# Altium footprint library NANO_STM32F103.PcbLib: 35 footprints (part 1 of 3)
Each footprint in its own frame and in the unit in brackets; x right, y up, seen from the top. Pads: shape width x height; smd on the part's side, far side on the other; paste and mask are expansions set on the pad; w line width, h text height; cw(c..) or ccw(c..) is an arc to the next point about the centre after c.
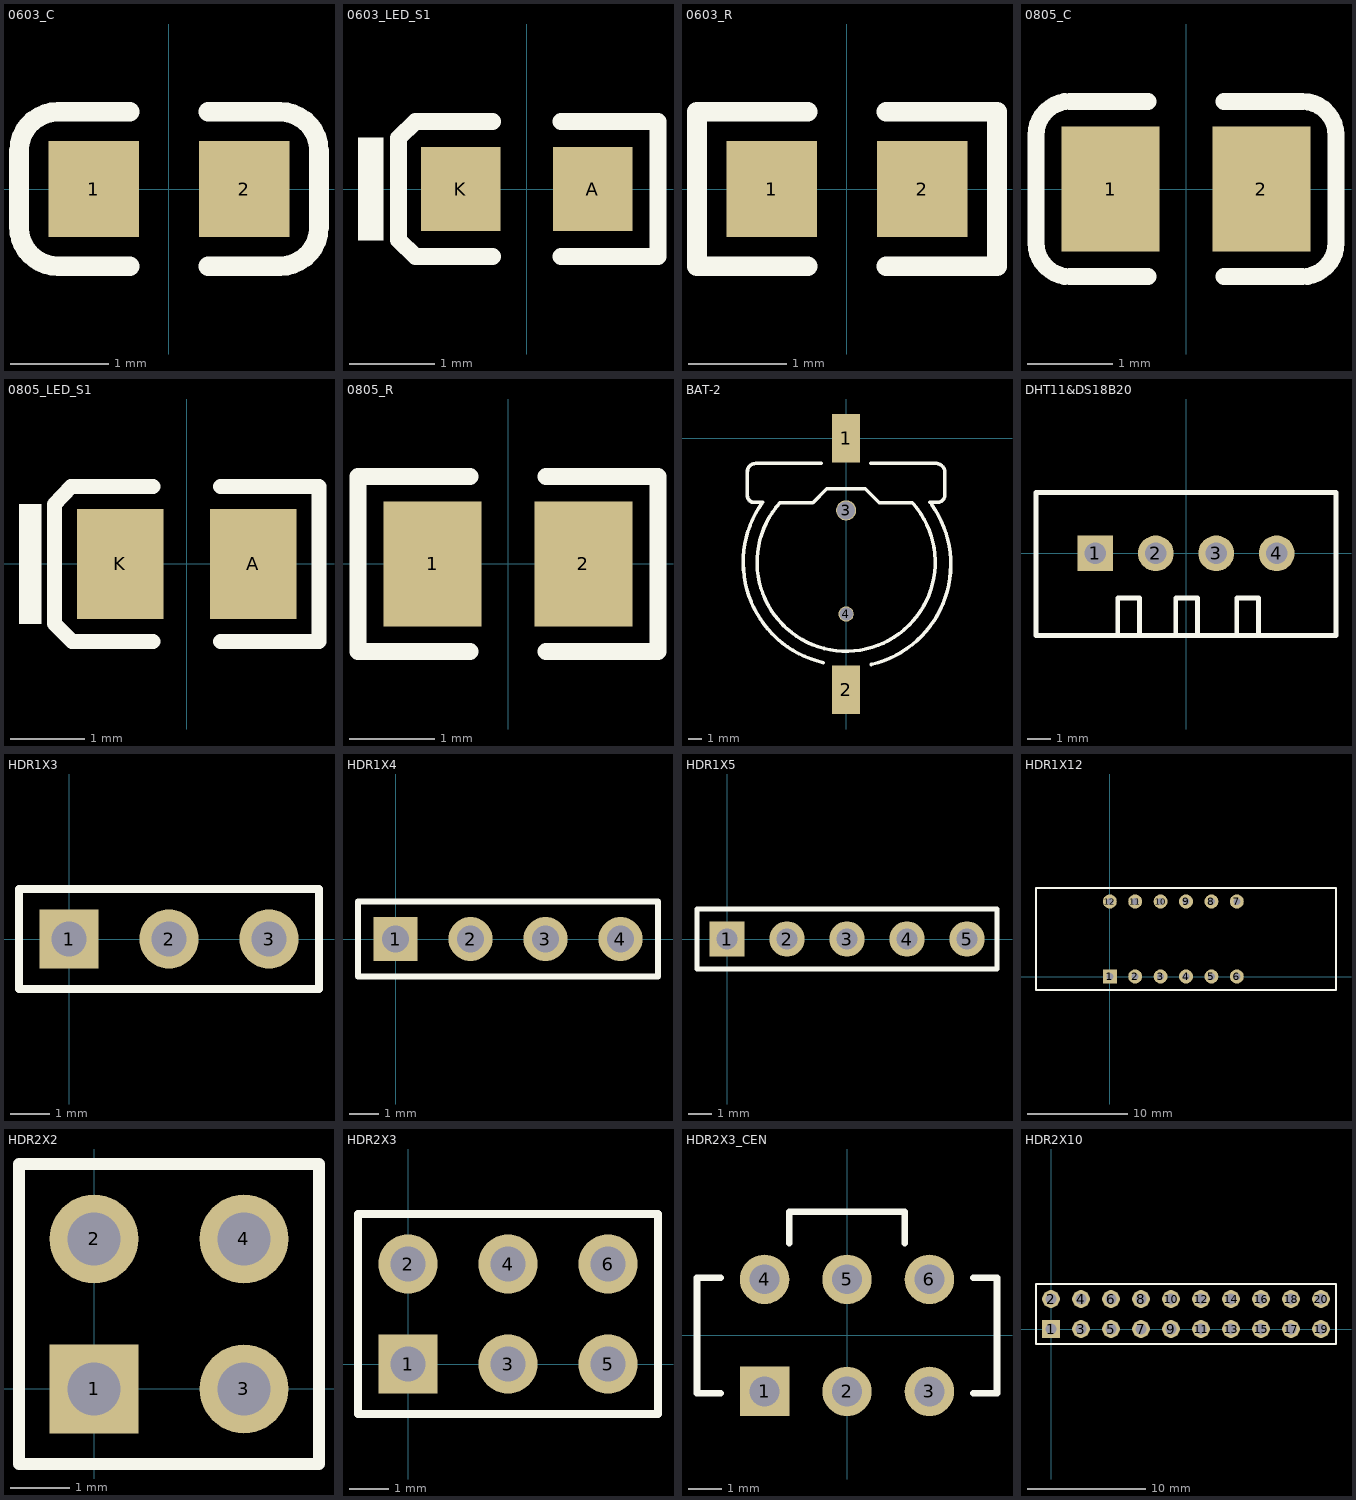
[diagram p0: the footprints below, top view; thin cyan lines are the x and y axes]

## 0603_C [mm]
pads (2):
  rect 0.93x0.98 smd: 1(-0.77,0) 2(0.77,0)
Top Overlay:
  lines w0.2: -0.4,-0.79 -1.135,-0.79 cw(c-1.135,-0.39) -1.535,-0.39 -1.535,0.39 cw(c-1.135,0.39) -1.135,0.79 -0.4,0.79 ; 0.4,-0.79 1.135,-0.79 ccw(c1.135,-0.39) 1.535,-0.39 1.535,0.39 ccw(c1.135,0.39) 1.135,0.79 0.4,0.79
3D body "User Library-0603 SMD Capacitor.STEP": height 0.3, standoff 0, extent -0.8,-0.4 0.8,0.4

## 0603_LED_S1 [mm]
pads (2):
  rect 0.93x0.98 smd: A(0.77,0) K(-0.77,0)
Top Overlay:
  rectangle: -1.975,-0.6 -1.675,0.6
  lines w0.2: -0.4,-0.79 -1.3,-0.79 -1.5,-0.597 -1.5,0.597 -1.3,0.79 -0.4,0.79 ; 0.4,-0.79 1.535,-0.79 1.535,0.79 0.4,0.79
3D body "User Library-LED_0603_R.STEP": height 0.6, standoff 0, extent -0.8,-0.4 0.8,0.4

## 0603_R [mm]
pads (2):
  rect 0.93x0.98 smd: 1(-0.77,0) 2(0.77,0)
Top Overlay:
  lines w0.2: -0.4,-0.79 -1.535,-0.79 -1.535,0.79 -0.4,0.79 ; 0.4,-0.79 1.535,-0.79 1.535,0.79 0.4,0.79
3D body "User Library-RES_1609-0603.STEP": height 0.56, standoff 0, extent -0.85,-0.4 0.85,0.4

## 0805_C [mm]
pads (2):
  rect 1.16x1.47 smd: 1(-0.89,0) 2(0.89,0)
Top Overlay:
  lines w0.2: -0.45,-1.035 -1.37,-1.035 cw(c-1.37,-0.635) -1.77,-0.635 -1.77,0.635 cw(c-1.37,0.635) -1.37,1.035 -0.45,1.035 ; 0.45,-1.035 1.37,-1.035 ccw(c1.37,-0.635) 1.77,-0.635 1.77,0.635 ccw(c1.37,0.635) 1.37,1.035 0.45,1.035
3D body "User Library-0805 SMD Capacitor.STEP": height 0.77, standoff -0.01, extent -0.999,-0.625 1.001,0.625

## 0805_LED_S1 [mm]
pads (2):
  rect 1.16x1.47 smd: A(0.89,0) K(-0.89,0)
Top Overlay:
  rectangle: -2.245,-0.8 -1.945,0.8
  lines w0.2: -0.45,-1.035 -1.535,-1.035 -1.77,-0.8 -1.77,0.8 -1.55,1.035 -0.45,1.035 ; 0.45,-1.035 1.77,-1.035 1.77,1.035 0.45,1.035
3D body "User Library-led_0805.step": height 1.1, standoff 0, extent -1.01,-0.625 1.01,0.625

## 0805_R [mm]
pads (2):
  rect 1.16x1.47 smd: 1(-0.89,0) 2(0.89,0)
Top Overlay:
  lines w0.2: -0.45,-1.035 -1.77,-1.035 -1.77,1.035 -0.45,1.035 ; 0.45,-1.035 1.77,-1.035 1.77,1.035 0.45,1.035
3D body "User Library-R_0805.STEP": height 0.49, standoff -0.01, extent -0.997,-0.625 1.003,0.625

## BAT-2 [mm] "Battery; 2 Leads"
pads (4):
  rect 2x3.5 smd: 1(0,0) 2(0,-18.067)
  round 1.45 hole 1.3: 3(0,-5.181)
  round 1.1 hole 0.95: 4(0,-12.631)
Top Overlay:
  lines w0.254: -6.016,-4.597 ccw(c0,-8.906) -1.649,-16.12 ; -6,-4.606 -6.6,-4.606 cw(c-6.6,-4.106) -7.1,-4.106 -7.1,-2.406 cw(c-6.5,-2.406) -6.5,-1.806 -1.778,-1.806 ; 1.778,-1.806 6.4,-1.806 cw(c6.45,-2.456) 7.1,-2.406 7.1,-4.106 ; 1.808,-16.259 ccw(c0.122,-9.054) 6.137,-4.743 ; 6,-4.606 6.6,-4.606 ccw(c6.55,-4.056) 7.1,-4.006 ; -4.767,-4.636 ccw(c0,-8.906) 4.859,-4.741 4.754,-4.636 2.374,-4.636 1.37,-3.632 -1.383,-3.632 -2.387,-4.636 -4.767,-4.636
3D body "alsrobot-CR1220.STEP": height 3.99, standoff -0.95, extent -7.504,-17.988 7.493,0.512

## DHT11&DS18B20 [mm] "DHT11&DS18B20_2.54mm"
pads (4):
  rect 1.5x1.5 hole 0.9: 1(-3.81,0)
  round 1.5 hole 0.9: 2(-1.27,0) 3(1.27,0) 4(3.81,0)
Top Overlay:
  lines w0.2: -2.87,-3.45 -2.87,-1.88 -1.956,-1.88 -1.956,-3.45 ; -0.432,-3.45 -0.432,-1.88 0.483,-1.88 0.483,-3.45 ; 2.134,-3.45 2.134,-1.88 3.048,-1.88 3.048,-3.45 ; -6.3,-3.45 -6.3,2.55 6.3,2.55 6.3,-3.45 -6.3,-3.45
3D body "圆排母_2.54mm_4pin.step": height 6.12, standoff -3, extent -5.08,-1.27 5.08,1.27

## HDR1X3 [mm] "Connector; Header; 3 Position"
pads (3):
  rect 1.5x1.5 hole 0.9: 1(0,0)
  round 1.5 hole 0.9: 2(2.54,0) 3(5.08,0)
Top Overlay:
  lines w0.2: -1.27,-1.27 6.35,-1.27 6.35,1.27 -1.27,1.27 -1.27,-1.27
3D body "HEADER 3.STEP": height 10.15, standoff -1.45, extent -1.27,-1.27 6.35,1.27

## HDR1X4 [mm] "Connector; Header; 4 Position"
pads (4):
  rect 1.5x1.5 hole 0.9: 1(0,0)
  round 1.5 hole 0.9: 2(2.54,0) 3(5.08,0) 4(7.62,0)
Top Overlay:
  lines w0.2: -1.27,-1.27 -1.27,1.27 8.89,1.27 8.89,-1.27 -1.27,-1.27
3D body "HEADER 4.STEP": height 1.02, standoff -10.58, extent -1.27,-1.27 8.89,1.27

## HDR1X5 [mm] "Connector; Header; 5 Position"
pads (5):
  rect 1.5x1.5 hole 0.9: 1(0,0)
  round 1.5 hole 0.9: 2(2.54,0) 3(5.08,0) 4(7.62,0) 5(10.16,0)
Top Overlay:
  lines w0.2: -1.27,-1.27 11.43,-1.27 11.43,1.27 -1.27,1.27 -1.27,-1.27
3D body "HEADER 5.STEP": height 10.17, standoff -1.43, extent -1.27,-1.27 11.43,1.27

## HDR1X12 [mm] "0.28英寸共阴数码管四位_JM-S02843AH-001"
pads (12):
  rect 1.4x1.4 hole 0.7: 1(0,0)
  round 1.4 hole 0.7: 2(2.54,0) 3(5.08,0) 4(7.62,0) 5(10.16,0) 6(12.7,0) 7(12.7,7.5) 8(10.16,7.5) 9(7.62,7.5) 10(5.08,7.5) 11(2.54,7.5) 12(0,7.5)
Top Overlay:
  lines w0.2: -7.38,-1.35 22.62,-1.35 22.62,8.85 -7.38,8.85 -7.38,-1.35
3D body: height 4, standoff 0, extent -7.38,-1.35 22.62,8.85

## HDR2X2 [mm] "Connector; Header; 2x2 Position"
pads (4):
  rect 1.5x1.5 hole 0.9: 1(0,0)
  round 1.5 hole 0.9: 2(0,2.54) 3(2.54,0) 4(2.54,2.54)
Top Overlay:
  lines w0.2: -1.27,-1.27 -1.27,3.81 3.81,3.81 3.81,-1.27 -1.27,-1.27
3D body "HEADER 2X2.STEP": height 10.18, standoff -1.42, extent -1.27,-1.27 3.81,3.81

## HDR2X3 [mm] "Connector; Header; 3x2 Position"
pads (6):
  rect 1.5x1.5 hole 0.9: 1(0,0)
  round 1.5 hole 0.9: 2(0,2.54) 3(2.54,0) 4(2.54,2.54) 5(5.08,0) 6(5.08,2.54)
Top Overlay:
  lines w0.2: 1.482,-1.27 6.35,-1.27 ; 6.35,-1.27 6.35,3.81 -1.27,3.81 -1.27,-1.27 6.35,-1.27
3D body "HEADER 3X2.STEP": height 10.18, standoff -1.42, extent -1.27,-1.27 6.35,3.81

## HDR2X3_CEN [mm] "Connector; Header; 3x2 Position"
pads (6):
  rect 1.5x1.5 hole 0.9: 1(-2.5,-1.7)
  round 1.5 hole 0.9: 2(0,-1.7) 3(2.5,-1.7) 4(-2.5,1.7) 5(0,1.7) 6(2.5,1.7)
Top Overlay:
  lines w0.2: -3.838,-1.75 -4.55,-1.75 -4.55,1.75 -3.838,1.75 ; -1.75,2.794 -1.75,3.75 1.75,3.75 1.75,2.794 ; 3.838,-1.75 4.55,-1.75 4.55,1.75 3.838,1.75
3D body "User Library-MSS-12D16.STEP": height 5.5, standoff -2.95, extent -4.5,-1.8 4.5,1.8

## HDR2X10 [mm] "Connector; Header; 10x2 Position"
pads (20):
  rect 1.5x1.5 hole 0.9: 1(0,0)
  round 1.5 hole 0.9: 2(0,2.54) 3(2.54,0) 4(2.54,2.54) 5(5.08,0) 6(5.08,2.54) 7(7.62,0) 8(7.62,2.54) 9(10.16,0) 10(10.16,2.54) 11(12.7,0) 12(12.7,2.54) 13(15.24,0) 14(15.24,2.54) 15(17.78,0) 16(17.78,2.54) 17(20.32,0) 18(20.32,2.54) 19(22.86,0) 20(22.86,2.54)
Top Overlay:
  lines w0.2: -1.27,-1.27 0.635,-1.27 24.13,-1.27 24.13,3.81 0.635,3.81 -1.27,3.81 -1.27,-1.27
3D body "HEADER 10X2.STEP": height 10.18, standoff -1.42, extent -1.27,-1.27 24.13,3.81